# Altium footprint library Connector-VH-3.96.PcbLib: 3 footprints
Each footprint in its own frame and in the unit in brackets; x right, y up, seen from the top. Pads: shape width x height; smd on the part's side, far side on the other; paste and mask are expansions set on the pad; w line width, h text height; cw(c..) or ccw(c..) is an arc to the next point about the centre after c.
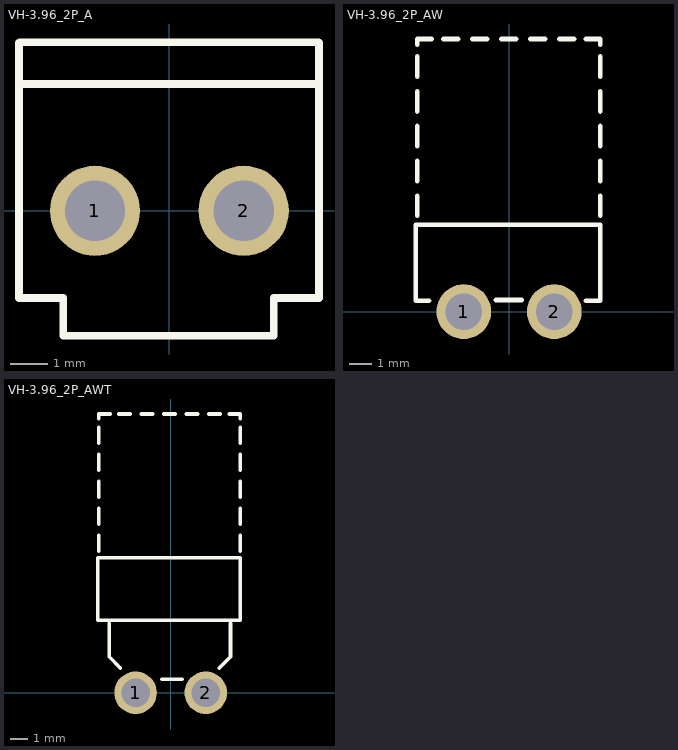
[diagram p0: the footprints below, top view; thin cyan lines are the x and y axes]

## VH-3.96_2P_A [mm]
pads (2):
  round 2.4 hole 1.6: 1(-1.981,0) 2(1.981,0)
Top Overlay:
  lines w0.203: -4.005,3.378 3.977,3.378 ; -4.005,4.471 -4.005,-2.322 -2.823,-2.322 -2.823,-3.325 ; -3.979,4.485 3.978,4.485 3.986,4.477 3.986,-2.322 ; -1.623,-3.325 -2.823,-3.325 ; 2.777,-3.325 -2.823,-3.325 ; 2.777,-3.322 2.777,-2.322 3.977,-2.322
3D body "User Library-B2P-VH.STEP": height 10.9, standoff -3.7, extent -3.935,-4.04 3.925,4.46

## VH-3.96_2P_AW [mm]
pads (2):
  round 2.4 hole 1.6: 1(-1.981,0) 2(1.981,0)
Top Overlay:
  lines w0.203: -4.013,4.191 -4.013,5.08 ; -4.013,5.715 -4.013,6.604 ; -4.013,7.239 -4.013,8.128 ; -4.013,8.763 -4.013,9.652 ; -4.013,10.287 -4.013,11.176 ; -4.013,11.684 -4.013,11.938 -3.378,11.938 ; -3.505,0.472 -4.081,0.472 -4.081,3.81 -0.313,3.81 3.988,3.81 3.988,0.472 3.353,0.472 ; -2.87,11.938 -2.235,11.938 ; -1.6,11.938 -0.965,11.938 ; -0.584,0.508 0.559,0.508 ; -0.33,11.938 0.305,11.938 ; 0.94,11.938 1.575,11.938 ; 2.21,11.938 2.845,11.938 ; 3.353,11.938 3.988,11.938 3.988,11.684 ; 3.988,4.191 3.988,5.08 ; 3.988,5.715 3.988,6.604 ; 3.988,7.239 3.988,8.128 ; 3.988,8.763 3.988,9.652 ; 3.988,10.287 3.988,11.176

## VH-3.96_2P_AWT [mm]
pads (2):
  round 2.4 hole 1.6: 1(-1.981,0) 2(1.981,0)
Top Overlay:
  lines w0.203: -4.064,8.001 -4.064,8.89 ; -4.064,9.525 -4.064,10.414 ; -4.064,11.049 -4.064,11.938 ; -4.064,12.573 -4.064,13.462 ; -4.064,14.097 -4.064,14.986 ; -4.064,15.494 -4.064,15.748 -3.429,15.748 ; -3.48,3.937 -3.48,2.286 -3.48,2.032 -2.845,1.397 ; -2.921,15.748 -2.286,15.748 ; -1.651,15.748 -1.016,15.748 ; -0.508,0.762 0.635,0.762 ; -0.381,15.748 0.254,15.748 ; 0.889,15.748 1.524,15.748 ; 2.159,15.748 2.794,15.748 ; 2.743,1.397 3.378,2.032 3.378,2.286 3.378,3.937 ; 3.302,15.748 3.937,15.748 3.937,15.494 ; 3.937,8.001 3.937,8.89 ; 3.937,9.525 3.937,10.414 ; 3.937,11.049 3.937,11.938 ; 3.937,12.573 3.937,13.462 ; 3.937,14.097 3.937,14.986 ; -4.132,4.089 -4.132,7.62 -0.364,7.62 3.937,7.62 3.937,4.089 3.109,4.089 -4.132,4.089
3D body "User Library-B2PS-VH.STEP": height 8.54, standoff -3.86, extent -3.923,-0.547 3.937,14.923